# Altium schematic symbol library CAP,Tant,4.7uF,25V,1206.Schlib: 1 symbol
Pins are listed as number, name and electrical type; pins without a type are passive.

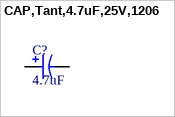
[diagram p0: symbol CAP,Tant,4.7uF,25V,1206]

## CAP,Tant,4.7uF,25V,1206
designator C?, comment 4.7uF
4.7 µF Molded Tantalum Capacitors 25 V 1206 (3216 Metric) 3.1Ohm
pins: 1, 2